# Altium footprint library opto-trans-siemens.PCBLIB: 13 footprints
Each footprint in its own frame and in the unit in brackets; x right, y up, seen from the top. Pads: shape width x height; smd on the part's side, far side on the other; paste and mask are expansions set on the pad; w line width, h text height; cw(c..) or ccw(c..) is an arc to the next point about the centre after c.
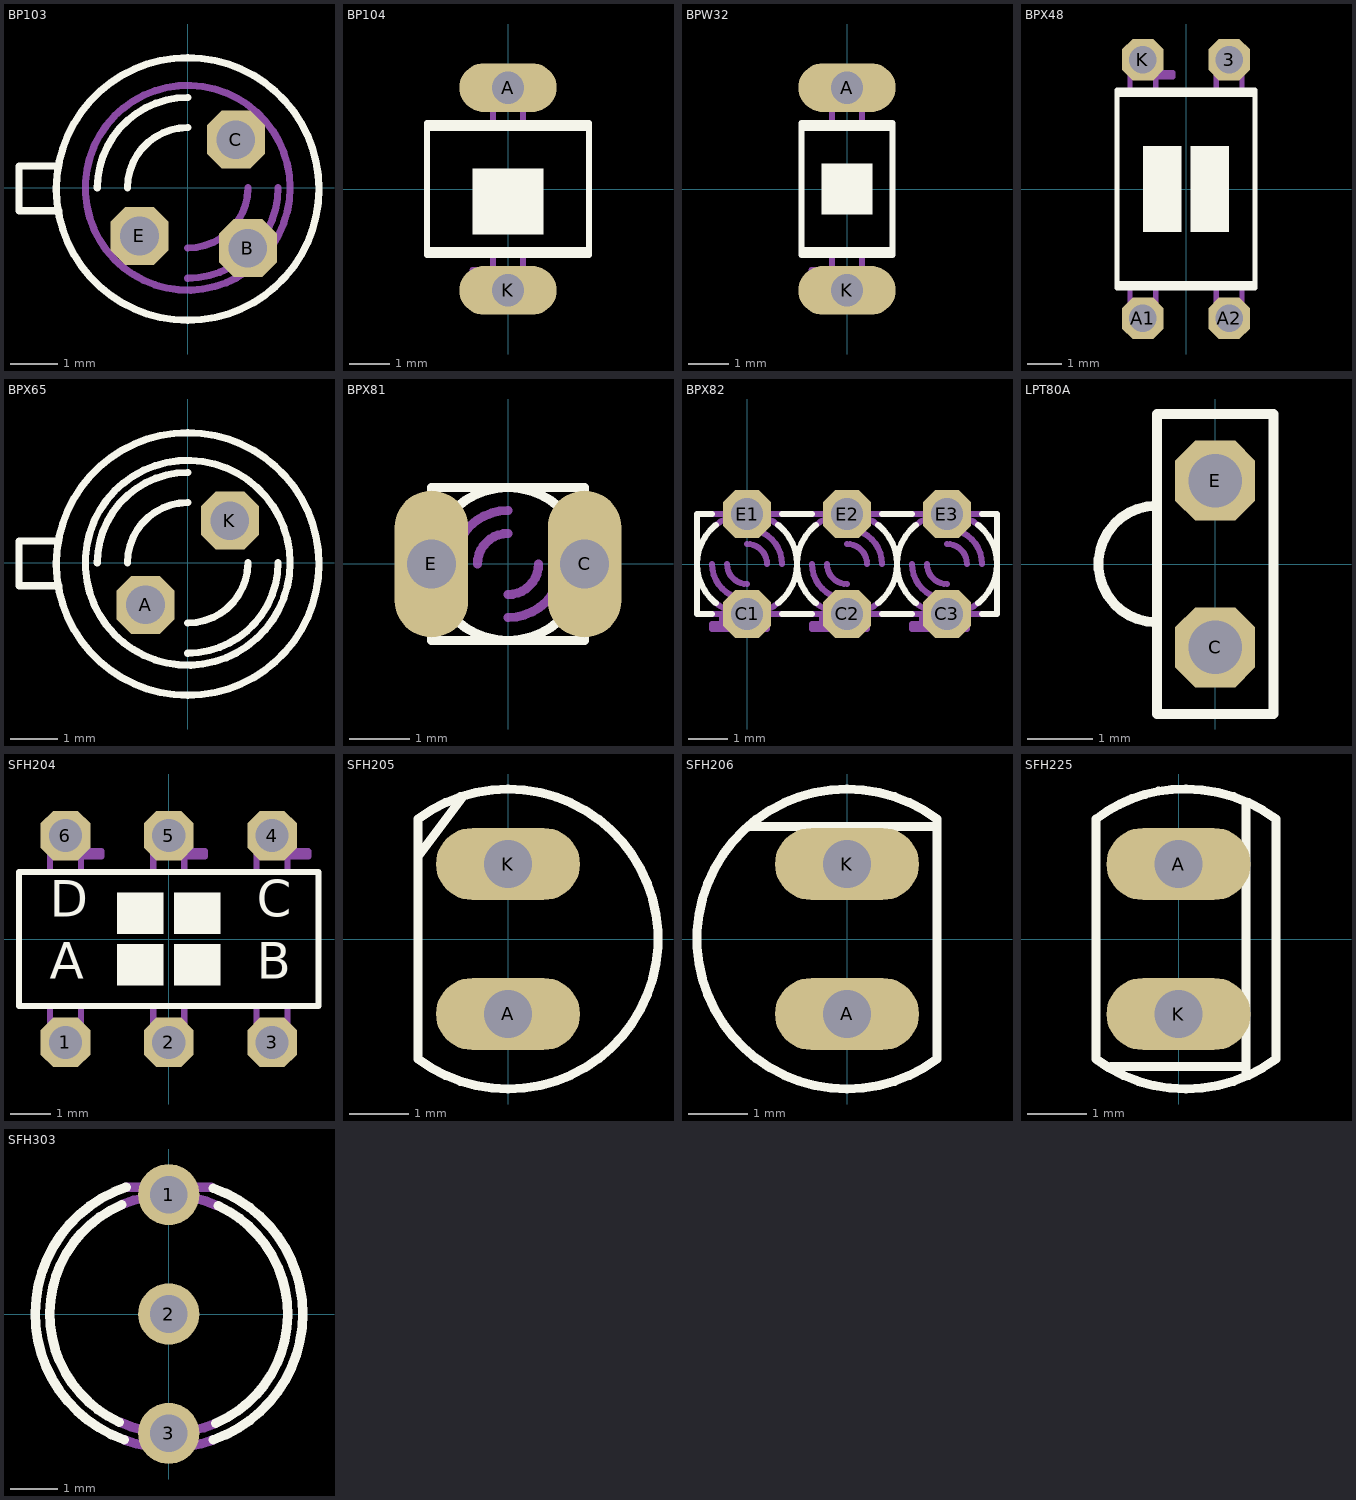
[diagram p0: the footprints below, top view; thin cyan lines are the x and y axes]

## BP103 [mil]
pads (3):
  oct 48x48 hole 32: B(50,-50) C(40,40) E(-40,-40)
Top Overlay:
  circle w6: c0,-1 r109
  lines w6: -108,18 -140,18 -140,-19 -107,-19 ; -75,0 cw(c0,0) 0,75 ; -50,0 cw(c0,0) 0,50
Mechanical 16:
  circle w6: c0,0 r85
  lines w6: 0,-75 ccw(c0,0) 75,0 ; 0,-50 ccw(c0,0) 50,0

## BP104 [mil]
pads (2):
  oval 96x48 hole 32: A(0,100) K(0,-100)
Top Overlay:
  rectangle: -35,-45 35,20
  lines w6: -80,-60 -80,-65 80,-65 80,-60 ; -80,-60 80,-60 ; -80,-60 -80,60 ; -80,60 80,60 ; -80,60 -80,65 80,65 80,60 ; 80,-60 80,60
Mechanical 16:
  lines w6: -15,-65 -15,-80 ; -15,65 -15,85 15,85 15,65 ; 15,-65 15,-85 -15,-85 ; -15,-85 -15,-80 ; -15,-85 -35,-85 -35,-80 -15,-80

## BPW32 [mil]
pads (2):
  oval 96x48 hole 32: A(0,100) K(0,-100)
Top Overlay:
  rectangle: -25,-25 25,25
  lines w6: -45,-60 -45,-65 45,-65 45,-60 ; -45,-60 45,-60 ; -45,-60 -45,60 ; -45,60 45,60 ; -45,60 -45,65 45,65 45,60 ; 45,-60 45,60
Mechanical 16:
  lines w6: -15,-65 -15,-80 ; -15,65 -15,85 15,85 15,65 ; 15,-65 15,-85 -15,-85 ; -15,-85 -15,-80 ; -15,-85 -35,-85 -35,-80 -15,-80

## BPX48 [mil]
pads (4):
  oct 48x48 hole 32: 3(50,150) A1(-50,-150) A2(50,-150) K(-50,150)
Top Overlay:
  rectangle: 5,-50 50,50
  rectangle: -50,-50 -5,50
  lines w6: -80,-110 -80,-115 80,-115 80,-110 ; -80,-110 80,-110 ; -80,-110 -80,110 ; -80,110 80,110 ; -80,110 -80,115 80,115 80,110 ; 80,-110 80,110
Mechanical 16:
  lines w6: -65,-115 -65,-135 -35,-135 -35,-115 ; -65,115 -65,135 -35,135 ; -35,115 -35,130 ; 35,-115 35,-135 65,-135 65,-115 ; 35,115 35,135 65,135 65,115 ; -35,130 -15,130 -15,135 -35,135 ; -35,130 -35,135

## BPX65 [mil]
pads (2):
  oct 48x48 hole 32: A(-35,-35) K(35,35)
Top Overlay:
  circle w6: c0,-1 r109
  circle w6: c0,0 r85
  lines w6: -108,18 -140,18 -140,-19 -107,-19 ; -75,0 cw(c0,0) 0,75 ; -50,0 cw(c0,0) 0,50 ; 0,-75 ccw(c0,0) 75,0 ; 0,-50 ccw(c0,0) 50,0

## BPX81 [mil]
pads (2):
  oval 48x96 hole 32: C(50,0) E(-50,0)
Top Overlay:
  lines w6: -50,-35 -50,-50 50,-50 50,-35 ; -50,35 -50,50 50,50 50,35 ; -39.04,-31.24 ccw(c0,-0.01) 0,-50 ccw(c0,-0.01) 39.04,-31.24 ; -39.04,31.24 cw(c0,0.01) 0,50 cw(c0,0.01) 39.04,31.24
Mechanical 16:
  lines w6: -50,-35 -50,35 ; -37.96,-32.54 cw(c0,0) -50,0 cw(c0,0) -37.96,32.54 ; -35,0 cw(c0,0) 0,35 ; -20,0 cw(c0,0) 0,20 ; 0,-35 ccw(c0,0) 35,0 ; 0,-20 ccw(c0,0) 20,0 ; 37.63,-32.93 ccw(c-0.01,0) 50,0 ccw(c0,0) 38.41,32.01 ; 50,-35 50,-25 ; 50,35 50,20 ; 50,-25 60,-25 ; 50,-25 50,20 ; 50,20 60,20 ; 60,-25 60,20 ; 60,-25 65,-25 65,30 60,30 60,20

## BPX82 [mil]
pads (6):
  oct 48x48 hole 32: C1(0,-50) C2(100,-50) C3(200,-50) E1(0,50) E2(100,50) E3(200,50)
Top Overlay:
  lines w6: -35,-50 -50,-50 -50,50 -35,50 ; -31.24,-39.04 cw(c-0.01,0) -50,0 cw(c-0.01,0) -31.24,39.04 ; 31.24,-39.04 ccw(c0.01,0) 50,0 ; 31.24,39.04 cw(c0.01,0) 50,0 ; 35,-50 65,-50 ; 35,50 65,50 ; 68.76,-39.04 cw(c99.99,0) 50,0 ; 68.76,39.04 ccw(c99.99,0) 50,0 ; 131.24,-39.04 ccw(c100.01,0) 150,0 ; 131.24,39.04 cw(c100.01,0) 150,0 ; 135,-50 165,-50 ; 135,50 165,50 ; 168.76,-39.04 cw(c199.99,0) 150,0 ; 168.76,39.04 ccw(c199.99,0) 150,0 ; 231.24,-39.04 ccw(c200.01,0) 250,0 ccw(c200.01,0) 231.24,39.04 ; 235,-50 250,-50 250,50 235,50
Mechanical 16:
  lines w6: -35,-50 -25,-50 ; -35,0 ccw(c0,0) 0,-35 ; -35,50 35,50 ; -32.93,-37.63 ccw(c0,0.01) 0,-50 ccw(c0,0) 32.01,-38.41 ; -32.54,37.96 cw(c0,0) 0,50 cw(c0,0) 32.54,37.96 ; -20,0 ccw(c0,0) 0,-20 ; 0,20 cw(c0,0) 20,0 ; 0,35 cw(c0,0) 35,0 ; 35,-50 20,-50 ; 65,-50 75,-50 ; 65,0 ccw(c100,0) 100,-35 ; 65,50 135,50 ; 67.07,-37.63 ccw(c100,0.01) 100,-50 ccw(c100,0) 132.01,-38.41 ; 67.46,37.96 cw(c100,0) 100,50 cw(c100,0) 132.54,37.96 ; 80,0 ccw(c100,0) 100,-20 ; 100,20 cw(c100,0) 120,0 ; 100,35 cw(c100,0) 135,0 ; 135,-50 120,-50 ; 165,-50 175,-50 ; 165,0 ccw(c200,0) 200,-35 ; 165,50 235,50 ; 167.07,-37.63 ccw(c200,0.01) 200,-50 ccw(c200,0) 232.01,-38.41 ; 167.46,37.96 cw(c200,0) 200,50 cw(c200,0) 232.54,37.96 ; 180,0 ccw(c200,0) 200,-20 ; 200,20 cw(c200,0) 220,0 ; 200,35 cw(c200,0) 235,0 ; 235,-50 220,-50 ; -25,-60 -25,-50 ; -25,-60 20,-60 ; -25,-60 -35,-60 -35,-65 20,-65 20,-60 ; -25,-50 20,-50 ; 20,-60 20,-50 ; 75,-60 75,-50 ; 75,-60 120,-60 ; 75,-60 65,-60 65,-65 120,-65 120,-60 ; 75,-50 120,-50 ; 120,-60 120,-50 ; 175,-60 175,-50 ; 175,-60 220,-60 ; 175,-60 165,-60 165,-65 220,-65 220,-60 ; 175,-50 220,-50 ; 220,-60 220,-50

## LPT80A [mil]
pads (2):
  oct 48x48 hole 32: C(0,-50) E(0,50)
Top Overlay:
  lines w6: -35,-35 cw(c-35,0) -35,35 ; -35,-90 35,-90 35,90 -35,90 -35,-90

## SFH204 [mil]
pads (6):
  oct 48x48 hole 32: 1(-100,-100) 2(0,-100) 3(100,-100) 4(100,100) 5(0,100) 6(-100,100)
Top Overlay:
  rectangle: -50,5 -5,45
  rectangle: 5,5 50,45
  rectangle: 5,-45 50,-5
  rectangle: -50,-45 -5,-5
  lines w6: -145,-65 145,-65 145,65 -145,65 -145,-65
  text "A" at -115,-50 h60.45
  text "B" at 85,-50 h60.45
  text "C" at 85,10 h60.45
  text "D" at -115,10 h60.45
Mechanical 16:
  lines w6: -115,-65 -115,-85 -85,-85 -85,-65 ; -115,65 -115,85 -85,85 ; -85,65 -85,80 ; -15,-65 -15,-85 15,-85 15,-65 ; -15,65 -15,85 15,85 ; 15,65 15,80 ; 85,-65 85,-85 115,-85 115,-65 ; 85,65 85,85 115,85 ; 115,65 115,80 ; -85,80 -65,80 -65,85 -85,85 ; -85,80 -85,85 ; 15,80 15,85 ; 15,80 35,80 35,85 15,85 ; 115,80 115,85 ; 115,80 135,80 135,85 115,85

## SFH205 [mil]
pads (2):
  oval 96x48 hole 32: A(0,-50) K(0,50)
Top Overlay:
  lines w6: -30,95 -60,55 ; -60,55 -60,-80 ccw(c0,0) 0,-100 ccw(c0,0) 0,100 ccw(c0,0) -60,80 -60,55

## SFH206 [mil]
pads (2):
  oval 96x48 hole 32: A(0,-50) K(0,50)
Top Overlay:
  lines w6: -65,75 60,75 ; 60,75 60,80 ccw(c0,0) 0,100 ccw(c0,0) 0,-100 ccw(c0,0) 60,-80 60,75

## SFH225 [mil]
pads (2):
  oval 96x48 hole 32: A(0,50) K(0,-50)
Top Overlay:
  lines w6: -45,-85 45,-85 ; 45,-90 45,-85 ; 45,90 45,-85 ; -55,-80 ccw(c4.54,-1.38) 5,-100 ccw(c5,0) 65,-80 65,80 ccw(c5,0) 5,100 ccw(c3.51,4.48) -55,80 -55,-80

## SFH303 [mil]
pads (3):
  round 51.18 hole 31.5: 1(0,100) 2(0,0) 3(0,-100)
Top Overlay:
  lines w8: -41.34,-90.55 cw(c0,0.06) -39.37,91.54 ; -37.4,-105.32 cw(c0.22,0.15) -35.43,106.3 -36.42,106.3 ; 37.4,-105.32 ccw(c0.67,0) 37.4,105.32 ; 39.37,-91.54 ccw(c0,-0.06) 41.34,90.55
Mechanical 16:
  lines w8: -41.34,-90.55 ccw(c0.15,1.61) 39.37,-91.54 ; -39.37,91.54 cw(c-0.15,-1.61) 41.34,90.55 ; -37.4,-105.32 ccw(c0,-7.53) 37.4,-105.32 ; -35.43,106.3 35.43,106.3